# Altium schematic symbol library Modules.SchLib: 26 symbols
Pins are listed as number, name and electrical type; pins without a type are passive.

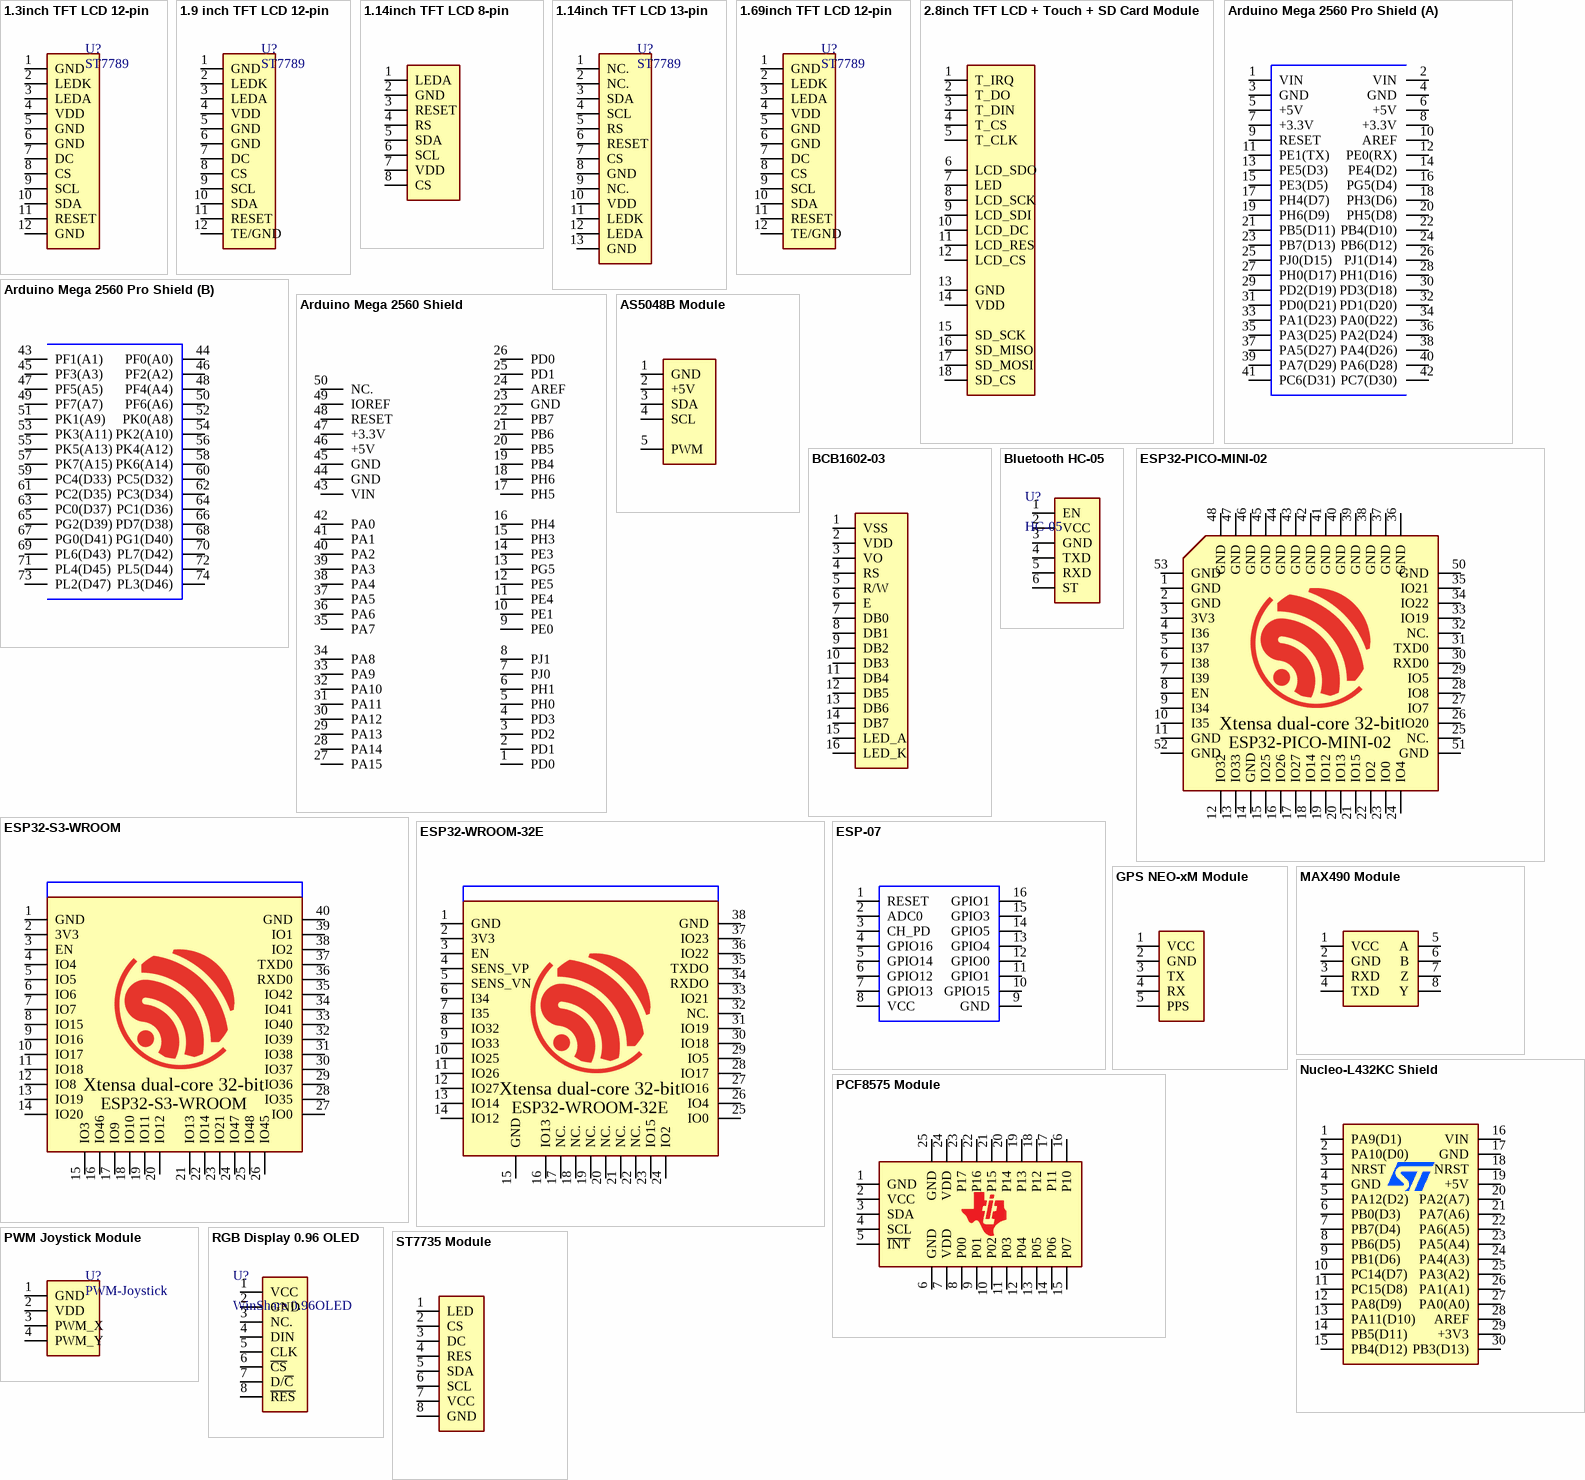
[diagram p0: symbols 1.3inch TFT LCD 12-pin to ST7735 Module]

## 1.3inch TFT LCD 12-pin
designator U?, comment ST7789
135x240 Display; Part Number: ST7789
footprint 1.3INCH/1.69INCH_LCD_WELDED
pins: 1 GND, 2 LEDK, 3 LEDA, 4 VDD, 5 GND, 6 GND, 7 DC, 8 CS, 9 SCL, 10 SDA, 11 RESET, 12 GND

## 1.9 inch TFT LCD 12-pin
designator U?, comment ST7789
170x320 Display; Part Number: ST7789
footprint 1.9INCH_LCD_WELDED
pins: 1 GND, 2 LEDK, 3 LEDA, 4 VDD, 5 GND, 6 GND, 7 DC, 8 CS, 9 SCL, 10 SDA, 11 RESET, 12 TE/GND

## 1.14inch TFT LCD 8-pin
designator U?, comment ST7789
135x240 Display; Part Number: ST7789
footprint 8X1F-H15MM (DS1021)
footprint 8X1F-H8.5MM (DS1021)
footprint 8X1FR-H6MM-L6MM (DS1022)
footprint 8X1FR-S2MM-H4.5MM-L6MM (DS1025-19)
footprint 8X1F-S2MM-H12.2MM (DS1025-01)
footprint 8X1F-S2MM-H8MM (DS1025-01)
footprint 8X1M-H5MM (DS1023)
footprint 8X1M-H8.5MM (DS1023)
footprint 8X1MR-H5.8MM-L10.2MM (DS1024)
footprint 8X1MR-S2MM-H2.8MM-L4.3MM (DS1026-02)
footprint 8X1M-S2MM-H4.3MM (DS1026-01)
footprint 8X1P
footprint 8X1P-S2MM
footprint FPC-8-S0.5MM
footprint FPC-8-S1MM
pins: 1 LEDA, 2 GND, 3 RESET, 4 RS, 5 SDA, 6 SCL, 7 VDD, 8 CS

## 1.14inch TFT LCD 13-pin
designator U?, comment ST7789
135x240 Display; Part Number: ST7789
pins: 1 NC., 2 NC., 3 SDA, 4 SCL, 5 RS, 6 RESET, 7 CS, 8 GND, 9 NC., 10 VDD, 11 LEDK, 12 LEDA, 13 GND

## 1.69inch TFT LCD 12-pin
designator U?, comment ST7789
240x280 Display; Part Number: ST7789
footprint 1.3INCH/1.69INCH_LCD_WELDED
pins: 1 GND, 2 LEDK, 3 LEDA, 4 VDD, 5 GND, 6 GND, 7 DC, 8 CS, 9 SCL, 10 SDA, 11 RESET, 12 TE/GND

## 2.8inch TFT LCD + Touch + SD Card Module
designator U?, comment ILI9341
320x240 Display with touchscreen + SD Card Holder; Part Number: ILI9341
footprint 2.8INCH_LCD_TOUCH_SD_MODULE
pins: 1 T_IRQ, 2 T_DO, 3 T_DIN, 4 T_CS, 5 T_CLK, 6 LCD_SDO, 7 LED, 8 LCD_SCK, 9 LCD_SDI, 10 LCD_DC, 11 LCD_RES, 12 LCD_CS, 13 GND, 14 VDD, 15 SD_SCK, 16 SD_MISO, 17 SD_MOSI, 18 SD_CS

## Arduino Mega 2560 Pro Shield
designator CN?, comment Arduino Mega 2560
Part Number: Arduino Mega 2560
footprint ARDUINO MEGA 2560 PRO F-SHIELD
footprint ARDUINO MEGA 2560 PRO M-SHIELD
part A pins: 1 VIN, 2 VIN, 3 GND, 4 GND, 5 +5V, 6 +5V, 7 +3.3V, 8 +3.3V, 9 RESET, 10 AREF, 11 PE1(TX), 12 PE0(RX), 13 PE5(D3), 14 PE4(D2), 15 PE3(D5), 16 PG5(D4), 17 PH4(D7), 18 PH3(D6), 19 PH6(D9), 20 PH5(D8), 21 PB5(D11), 22 PB4(D10), 23 PB7(D13), 24 PB6(D12), 25 PJ0(D15), 26 PJ1(D14), 27 PH0(D17), 28 PH1(D16), 29 PD2(D19), 30 PD3(D18), 31 PD0(D21), 32 PD1(D20), 33 PA1(D23), 34 PA0(D22), 35 PA3(D25), 36 PA2(D24), 37 PA5(D27), 38 PA4(D26), 39 PA7(D29), 40 PA6(D28), 41 PC6(D31), 42 PC7(D30)
part B pins: 43 PF1(A1), 44 PF0(A0), 45 PF3(A3), 46 PF2(A2), 47 PF5(A5), 48 PF4(A4), 49 PF7(A7), 50 PF6(A6), 51 PK1(A9), 52 PK0(A8), 53 PK3(A11), 54 PK2(A10), 55 PK5(A13), 56 PK4(A12), 57 PK7(A15), 58 PK6(A14), 59 PC4(D33), 60 PC5(D32), 61 PC2(D35), 62 PC3(D34), 63 PC0(D37), 64 PC1(D36), 65 PG2(D39), 66 PD7(D38), 67 PG0(D41), 68 PG1(D40), 69 PL6(D43), 70 PL7(D42), 71 PL4(D45), 72 PL5(D44), 73 PL2(D47), 74 PL3(D46)

## Arduino Mega 2560 Shield
designator CN?, comment Arduino Mega 2560
Part Number: Arduino Mega 2560
footprint ARDUINO MEGA F_Shield (ARDUINO MEGA 2560 Full Father Shield)
footprint ARDUINO MEGA M_Shield (ARDUINO MEGA 2560 Full Mother Shield)
pins: 1 PD0, 2 PD1, 3 PD2, 4 PD3, 5 PH0, 6 PH1, 7 PJ0, 8 PJ1, 9 PE0, 10 PE1, 11 PE4, 12 PE5, 13 PG5, 14 PE3, 15 PH3, 16 PH4, 17 PH5, 18 PH6, 19 PB4, 20 PB5, 21 PB6, 22 PB7, 23 GND, 24 AREF, 25 PD1, 26 PD0, 27 PA15, 28 PA14, 29 PA13, 30 PA12, 31 PA11, 32 PA10, 33 PA9, 34 PA8, 35 PA7, 36 PA6, 37 PA5, 38 PA4, 39 PA3, 40 PA2, 41 PA1, 42 PA0, 43 VIN, 44 GND, 45 GND, 46 +5V, 47 +3.3V, 48 RESET, 49 IOREF, 50 NC.

## AS5048B Module
designator U?, comment AS5048B
I2C/PWM Magnetic Rotary Encoder Module; Part Number: AS5048B
footprint _5-PAD-SM
footprint _5-PAD-TH
footprint 5X1F-H15MM (DS1021)
footprint 5X1F-H8.5MM (DS1021)
footprint 5X1FR-H6MM-L6MM (DS1022)
footprint 5X1FR-S2MM-H4.5MM-L6MM (DS1025-19)
footprint 5X1F-S2MM-H12.2MM (DS1025-01)
footprint 5X1F-S2MM-H8MM (DS1025-01)
footprint 5X1M-H5MM (DS1023)
footprint 5X1M-H8.5MM (DS1023)
footprint 5X1MR-H5.8MM-L10.2MM (DS1024)
footprint 5X1MR-S2MM-H2.8MM-L4.3MM (DS1026-02)
footprint 5X1M-S2MM-H4.3MM (DS1026-01)
footprint 5X1P
footprint 5X1P-S2MM
pins: 1 GND, 2 +5V, 3 SDA, 4 SCL, 5 PWM

## BCB1602-03
designator U?, comment BCB1602-03EA
Monochrome 1602 LCD Display Module; Part Number: BCB1602-03EA
footprint BCB1602-03EA (Monochrome LCD Display Module)
pins: 1 VSS, 2 VDD, 3 VO, 4 RS, 5 R/W, 6 E, 7 DB0, 8 DB1, 9 DB2, 10 DB3, 11 DB4, 12 DB5, 13 DB6, 14 DB7, 15 LED_A, 16 LED_K

## Bluetooth HC-05
designator U?, comment HC-05
Part Number: HC-05
footprint 6X1F-H15MM (DS1021)
footprint 6X1F-H8.5MM (DS1021)
footprint 6X1FR-H6MM-L6MM (DS1022)
footprint 6X1FR-S2MM-H4.5MM-L6MM (DS1025-19)
footprint 6X1F-S2MM-H12.2MM (DS1025-01)
footprint 6X1F-S2MM-H8MM (DS1025-01)
footprint 6X1M-H5MM (DS1023)
footprint 6X1M-H8.5MM (DS1023)
footprint 6X1MR-H5.8MM-L10.2MM (DS1024)
footprint 6X1MR-S2MM-H2.8MM-L4.3MM (DS1026-02)
footprint 6X1M-S2MM-H4.3MM (DS1026-01)
footprint 6X1P
footprint 6X1P-S2MM
pins: 1 EN, 2 VCC, 3 GND, 4 TXD, 5 RXD, 6 ST

## ESP32-PICO-MINI-02
designator U?, comment ESP32-PICO-MINI-02-N8R2
Part Number: ESP32-PICO-MINI-02-N8R2
footprint ESP32-PICO-MINI-02
pins: 1 GND, 2 GND, 3 3V3, 4 I36, 5 I37, 6 I38, 7 I39, 8 EN, 9 I34, 10 I35, 11 GND, 12 IO32, 13 IO33, 14 GND, 15 IO25, 16 IO26, 17 IO27, 18 IO14, 19 IO12, 20 IO13, 21 IO15, 22 IO2, 23 IO0, 24 IO4, 25 NC., 26 IO20, 27 IO7, 28 IO8, 29 IO5, 30 RXD0, 31 TXD0, 32 NC., 33 IO19, 34 IO22, 35 IO21, 36 GND, 37 GND, 38 GND, 39 GND, 40 GND, 41 GND, 42 GND, 43 GND, 44 GND, 45 GND, 46 GND, 47 GND, 48 GND, 50 GND, 51 GND, 52 GND, 53 GND
text: Xtensa dual-core 32-bit

## ESP32-S3-WROOM
designator U?, comment ESP32-S3-WROOM-1-N16R8
Part Number: ESP32-S3-WROOM-1-N16R8
footprint ESP32-S3-WROOM-1 (Footprint not found)
pins: 1 GND, 2 3V3, 3 EN, 4 IO4, 5 IO5, 6 IO6, 7 IO7, 8 IO15, 9 IO16, 10 IO17, 11 IO18, 12 IO8, 13 IO19, 14 IO20, 15 IO3, 16 IO46, 17 IO9, 18 IO10, 19 IO11, 20 IO12, 21 IO13, 22 IO14, 23 IO21, 24 IO47, 25 IO48, 26 IO45, 27 IO0, 28 IO35, 29 IO36, 30 IO37, 31 IO38, 32 IO39, 33 IO40, 34 IO41, 35 IO42, 36 RXD0, 37 TXD0, 38 IO2, 39 IO1, 40 GND
text: Xtensa dual-core 32-bit

## ESP32-WROOM-32E
designator U?
Part Number: ESP32-WROOM-32E
footprint ESP32-WROOM-32
pins: 1 GND, 2 3V3, 3 EN, 4 SENS_VP, 5 SENS_VN, 6 I34, 7 I35, 8 IO32, 9 IO33, 10 IO25, 11 IO26, 12 IO27, 13 IO14, 14 IO12, 15 GND, 16 IO13, 17 NC., 18 NC., 19 NC., 20 NC., 21 NC., 22 NC., 23 IO15, 24 IO2, 25 IO0, 26 IO4, 27 IO16, 28 IO17, 29 IO5, 30 IO18, 31 IO19, 32 NC., 33 IO21, 34 RXDO, 35 TXDO, 36 IO22, 37 IO23, 38 GND
text: Xtensa dual-core 32-bit

## ESP-07
designator U?
Part Number: ESP-07
footprint ESP8266-07
pins: 1 RESET, 2 ADC0, 3 CH_PD, 4 GPIO16, 5 GPIO14, 6 GPIO12, 7 GPIO13, 8 VCC, 9 GND, 10 GPIO15, 11 GPIO1, 12 GPIO0, 13 GPIO4, 14 GPIO5, 15 GPIO3, 16 GPIO1

## GPS NEO-xM Module
designator U?, comment Neo-6M
Mx Concurrent GNSS module; Part Number: Neo-6M
footprint 5X1F-H15MM (DS1021)
footprint 5X1F-H8.5MM (DS1021)
footprint 5X1FR-H6MM-L6MM (DS1022)
footprint 5X1FR-S2MM-H4.5MM-L6MM (DS1025-19)
footprint 5X1F-S2MM-H12.2MM (DS1025-01)
footprint 5X1F-S2MM-H8MM (DS1025-01)
footprint 5X1M-H5MM (DS1023)
footprint 5X1M-H8.5MM (DS1023)
footprint 5X1MR-H5.8MM-L10.2MM (DS1024)
footprint 5X1MR-S2MM-H2.8MM-L4.3MM (DS1026-02)
footprint 5X1M-S2MM-H4.3MM (DS1026-01)
footprint 5X1P
footprint 5X1P-S2MM
pins: 1 VCC, 2 GND, 3 TX, 4 RX, 5 PPS

## MAX490 Module
designator U?, comment MAX490
Full-Duplex RS-485/RS-422 Transceiver; Part Number: MAX490
footprint 8X1F-H15MM (DS1021)
footprint 8X1F-H8.5MM (DS1021)
footprint 8X1FR-H6MM-L6MM (DS1022)
footprint 8X1FR-S2MM-H4.5MM-L6MM (DS1025-19)
footprint 8X1F-S2MM-H12.2MM (DS1025-01)
footprint 8X1F-S2MM-H8MM (DS1025-01)
footprint 8X1M-H5MM (DS1023)
footprint 8X1M-H8.5MM (DS1023)
footprint 8X1MR-H5.8MM-L10.2MM (DS1024)
footprint 8X1MR-S2MM-H2.8MM-L4.3MM (DS1026-02)
footprint 8X1M-S2MM-H4.3MM (DS1026-01)
footprint 8X1P
footprint 8X1P-S2MM
pins: 1 VCC, 2 GND, 3 RXD, 4 TXD, 5 A, 6 B, 7 Z, 8 Y

## Nucleo-L432KC Shield
designator CN?, comment Nucleo-L432KC
Nucleo-32; Part Number: Nucleo-L432KC
pins: 1 PA9(D1), 2 PA10(D0), 3 NRST, 4 GND, 5 PA12(D2), 6 PB0(D3), 7 PB7(D4), 8 PB6(D5), 9 PB1(D6), 10 PC14(D7), 11 PC15(D8), 12 PA8(D9), 13 PA11(D10), 14 PB5(D11), 15 PB4(D12), 16 VIN, 17 GND, 18 NRST, 19 +5V, 20 PA2(A7), 21 PA7(A6), 22 PA6(A5), 23 PA5(A4), 24 PA4(A3), 25 PA3(A2), 26 PA1(A1), 27 PA0(A0), 28 AREF, 29 +3V3, 30 PB3(D13)

## PCF8575 Module
designator U?, comment PCF8575
Remote16-BIT I2C and SMBus I/O Expander; Part Number: PCF8575
pins: 1 GND, 2 VCC, 3 SDA, 4 SCL, 5 ~{INT}, 6 GND, 7 VDD, 8 P00, 9 P01, 10 P02, 11 P03, 12 P04, 13 P05, 14 P06, 15 P07, 16 P10, 17 P11, 18 P12, 19 P13, 20 P14, 21 P15, 22 P16, 23 P17, 24 VDD, 25 GND

## PWM Joystick Module
designator U?, comment PWM-Joystick
Part Number: PWM-Joystick
footprint _4-PAD-SM
footprint _4-PAD-TH
footprint 4X1F-H15MM (DS1021)
footprint 4X1F-H8.5MM (DS1021)
footprint 4X1FR-H6MM-L6MM (DS1022)
footprint 4X1FR-S2MM-H4.5MM-L6MM (DS1025-19)
footprint 4X1F-S2MM-H12.2MM (DS1025-01)
footprint 4X1F-S2MM-H8MM (DS1025-01)
footprint 4X1M-H5MM (DS1023)
footprint 4X1M-H8.5MM (DS1023)
footprint 4X1MR-H5.8MM-L10.2MM (DS1024)
footprint 4X1MR-S2MM-H2.8MM-L4.3MM (DS1026-02)
footprint 4X1M-S2MM-H4.3MM (DS1026-01)
footprint 4X1P
footprint 4X1P-S2MM
pins: 1 GND, 2 VDD, 3 PWM_X, 4 PWM_Y

## RGB Display 0.96 OLED
designator U?, comment WinShare 0.96OLED
Part Number: WinShare 0.96OLED
footprint 8X1F-H15MM (DS1021)
footprint 8X1F-H8.5MM (DS1021)
footprint 8X1FR-H6MM-L6MM (DS1022)
footprint 8X1FR-S2MM-H4.5MM-L6MM (DS1025-19)
footprint 8X1F-S2MM-H12.2MM (DS1025-01)
footprint 8X1F-S2MM-H8MM (DS1025-01)
footprint 8X1M-H5MM (DS1023)
footprint 8X1M-H8.5MM (DS1023)
footprint 8X1MR-H5.8MM-L10.2MM (DS1024)
footprint 8X1MR-S2MM-H2.8MM-L4.3MM (DS1026-02)
footprint 8X1M-S2MM-H4.3MM (DS1026-01)
footprint 8X1P
footprint 8X1P-S2MM
pins: 1 VCC, 2 GND, 3 NC., 4 DIN, 5 CLK, 6 ~{CS}, 7 D/~{C}, 8 ~{RES}

## ST7735 Module
designator U?, comment ST7735
Module LCD Display; Part Number: ST7735
footprint 8X1F-H15MM (DS1021)
footprint 8X1F-H8.5MM (DS1021)
footprint 8X1FR-H6MM-L6MM (DS1022)
footprint 8X1FR-S2MM-H4.5MM-L6MM (DS1025-19)
footprint 8X1F-S2MM-H12.2MM (DS1025-01)
footprint 8X1F-S2MM-H8MM (DS1025-01)
footprint 8X1M-H5MM (DS1023)
footprint 8X1M-H8.5MM (DS1023)
footprint 8X1MR-H5.8MM-L10.2MM (DS1024)
footprint 8X1MR-S2MM-H2.8MM-L4.3MM (DS1026-02)
footprint 8X1M-S2MM-H4.3MM (DS1026-01)
footprint 8X1P
pins: 1 LED, 2 CS, 3 DC, 4 RES, 5 SDA, 6 SCL, 7 VCC, 8 GND

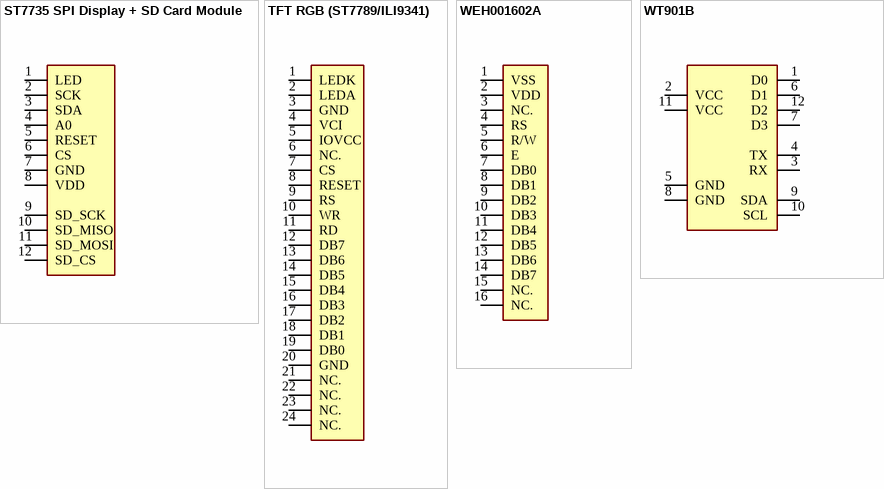
[diagram p1: symbols ST7735 SPI Display + SD Card Module to WT901B]

## ST7735 SPI Display + SD Card Module
designator U?, comment ST7735
120x160 Display + SD Card Holder; Part Number: ST7735
pins: 1 LED, 2 SCK, 3 SDA, 4 A0, 5 RESET, 6 CS, 7 GND, 8 VDD, 9 SD_SCK, 10 SD_MISO, 11 SD_MOSI, 12 SD_CS

## TFT RGB (ST7789/ILI9341)
designator U?, comment TFT Display
Part Number: TFT Display
footprint FPC-24-S0.5MM
footprint FPC-24-S1MM
pins: 1 LEDK, 2 LEDA, 3 GND, 4 VCI, 5 IOVCC, 6 NC., 7 CS, 8 RESET, 9 RS, 10 WR, 11 RD, 12 DB7, 13 DB6, 14 DB5, 15 DB4, 16 DB3, 17 DB2, 18 DB1, 19 DB0, 20 GND, 21 NC., 22 NC., 23 NC., 24 NC.

## WEH001602A
designator U?
1602 OLED Display; Part Number: WEH001602A
footprint 16X1F-H15MM (DS1021)
footprint 16X1F-H8.5MM (DS1021)
footprint 16X1FR-H6MM-L6MM (DS1022)
footprint 16X1FR-S2MM-H4.5MM-L6MM (DS1025-19)
footprint 16X1F-S2MM-H12.2MM (DS1025-01)
footprint 16X1F-S2MM-H8MM (DS1025-01)
footprint 16X1M-H5MM (DS1023)
footprint 16X1M-H8.5MM (DS1023)
footprint 16X1MR-H5.8MM-L10.2MM (DS1024)
footprint 16X1MR-S2MM-H2.8MM-L4.3MM (DS1026-02)
footprint 16X1M-S2MM-H4.3MM (DS1026-01)
footprint 16X1P
footprint 16X1P-S2MM
pins: 1 VSS, 2 VDD, 3 NC., 4 RS, 5 R/W, 6 E, 7 DB0, 8 DB1, 9 DB2, 10 DB3, 11 DB4, 12 DB5, 13 DB6, 14 DB7, 15 NC., 16 NC.

## WT901B
designator U?
Part Number: WT901B
footprint WT901B (Footprint not found)
pins: 1 D0, 2 VCC, 3 RX, 4 TX, 5 GND, 6 D1, 7 D3, 8 GND, 9 SDA, 10 SCL, 11 VCC, 12 D2